# EAGLE library part MPU9250 (library Dalek_Sensor)
GY 9250 사용설명서: http://www.jkelec.co.kr/img/sensors/manual/mpu9250_gy9250/mpu9250_gy9250_manual.html
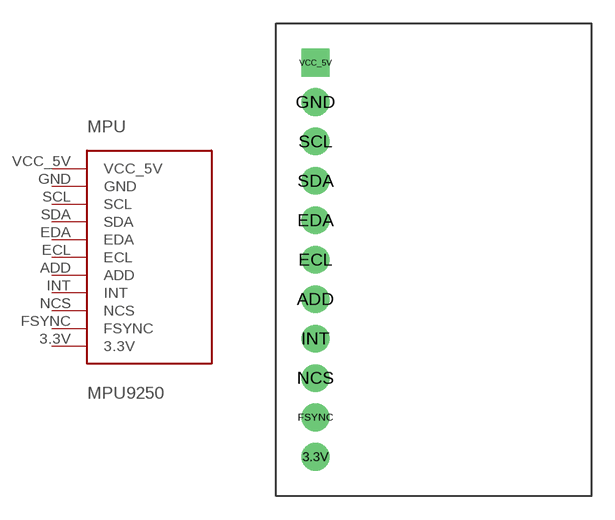
[diagram p0: symbol with the pads of MPU9250; footprint MPU9250]

Designator prefix MPU

## MPU9250  [MPU9250]
3.3V  3.3V
ADD  ADD
ECL  ECL
EDA  EDA
FSYNC  FSYNC
GND  GND
INT  INT
NCS  NCS
SCL  SCL
SDA  SDA
VCC_5V  VCC_5V

## Footprint MPU9250 (pad centres in mm)
drill 0.8 pad 1.778: 3.3V 2.54,-27.94; ADD 2.54,-17.78; ECL 2.54,-15.24; EDA 2.54,-12.7; FSYNC 2.54,-25.4; GND 2.54,-5.08; INT 2.54,-20.32; NCS 2.54,-22.86; SCL 2.54,-7.62; SDA 2.54,-10.16
drill 0.8 pad 1.778 square: VCC_5V 2.54,-2.54